# Altium integrated library 74LS08.IntLib: 1 symbol
Pins are listed as number, name and electrical type; pins without a type are passive.

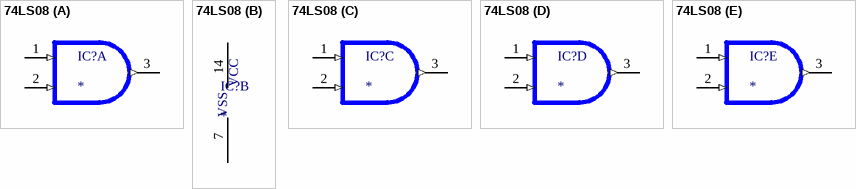
[diagram p0: symbol 74LS08]

## 74LS08
designator IC?
AND Gate IC 4 Channel - 14-SSOP; MF: Texas Instruments; MP: 74LS08; Value: *; Purchase-URL: https://pricing.snapeda.com/search/part/74LS08/?ref=eda; Price: None; Package: SOIC-14 Motorola; Check_prices: https://www.snapeda.com/parts/74LS08/Texas+Instruments/view-part/?ref=eda; SnapEDA_Link: https://www.snapeda.com/parts/74LS08/Texas+Instruments/view-part/?ref=snap; Availability: In Stock
footprint DIL14
part A pins: 1 I0 (in), 2 I1 (in), 3 O (out)
part B pins: 7 VSS (power), 14 VCC (power)
part C pins: 1 I0 (in), 2 I1 (in), 3 O (out)
part D pins: 1 I0 (in), 2 I1 (in), 3 O (out)
part E pins: 1 I0 (in), 2 I1 (in), 3 O (out)